# Altium footprint library Project_Oshinoko.PcbLib: 202 footprints (part 9 of 13)
Each footprint in its own frame and in the unit in brackets; x right, y up, seen from the top. Pads: shape width x height; smd on the part's side, far side on the other; paste and mask are expansions set on the pad; w line width, h text height; cw(c..) or ccw(c..) is an arc to the next point about the centre after c.
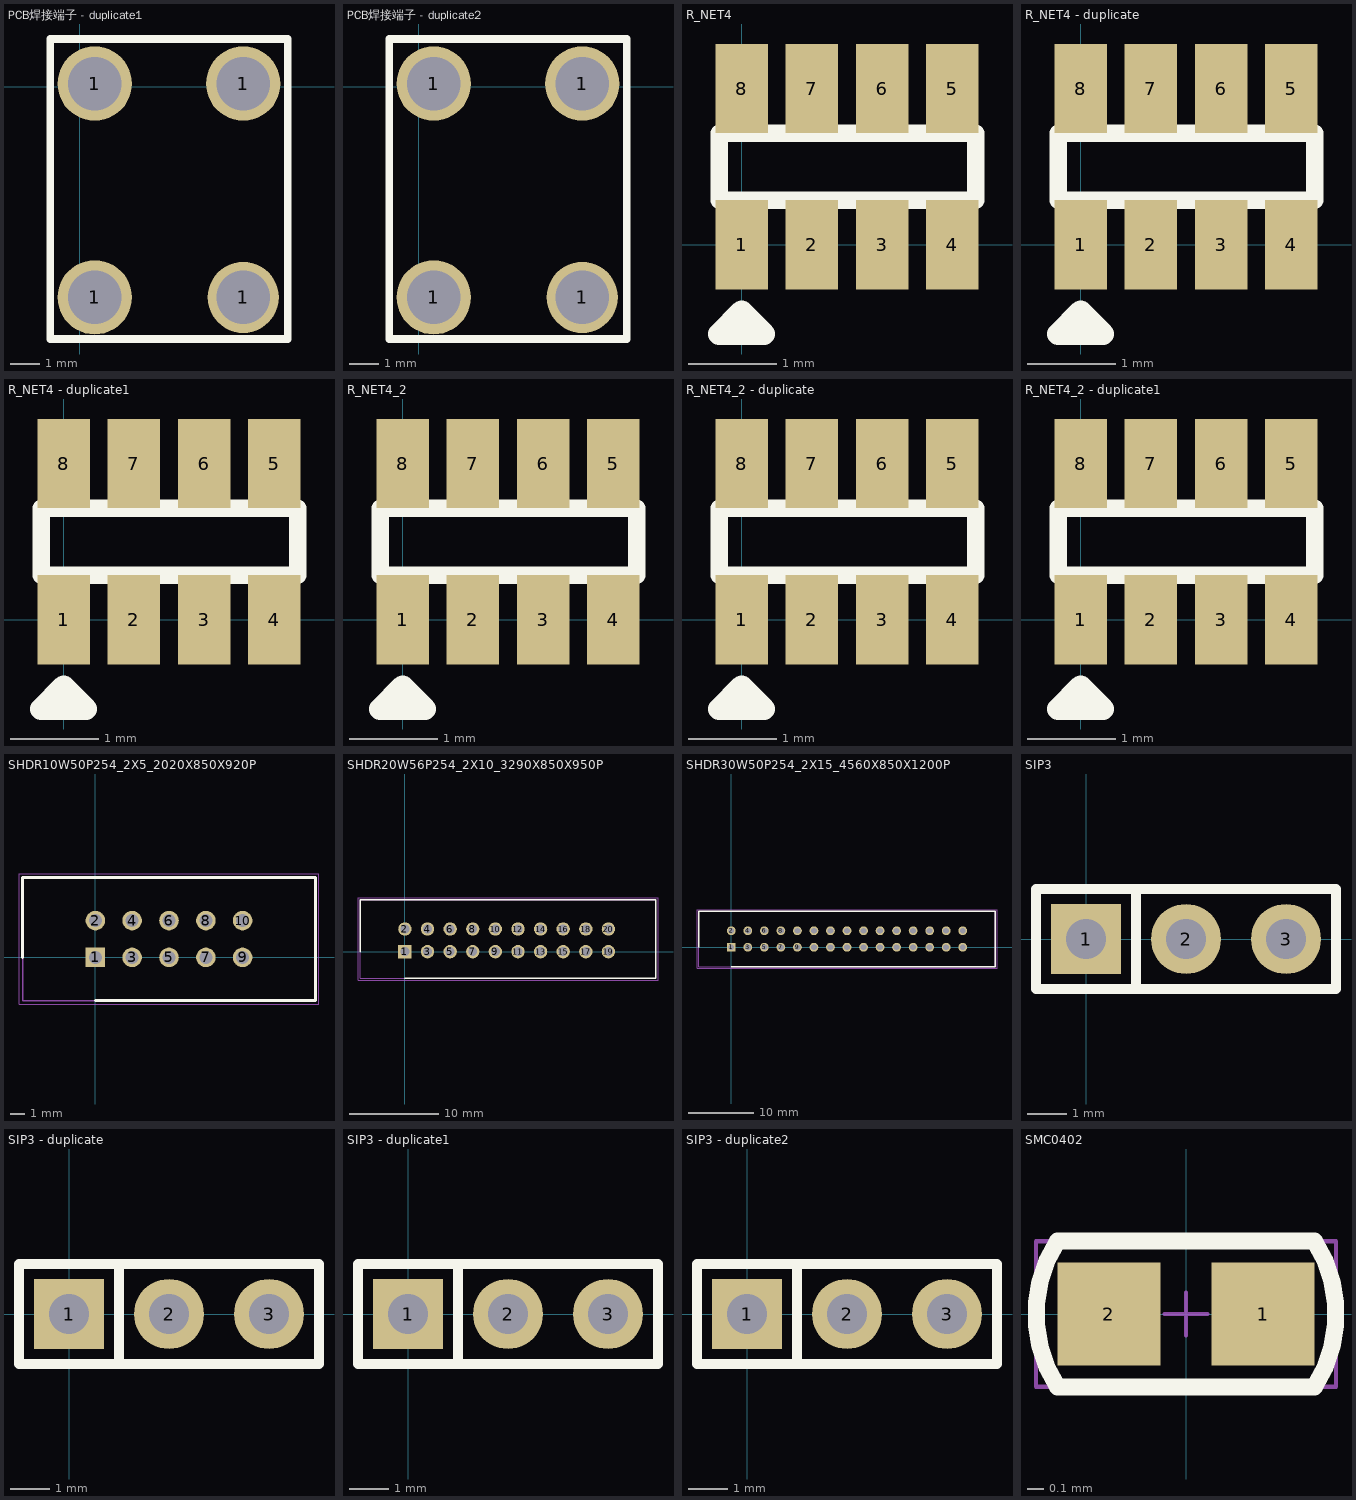
[diagram p8: the footprints below, top view; thin cyan lines are the x and y axes]

## PCB焊接端子 - duplicate1 [mm]
pads (4):
  round 2.5 hole 1.8: 1(0.5,-7.1) 1(0.5,0.1) 1(5.5,0.1)
  round 2.4 hole 1.8: 1(5.5,-7.1)
Top Overlay:
  lines w0.254: -1,-8.5 -1,1.6 7,1.6 7,-8.5 -1,-8.5

## PCB焊接端子 - duplicate2 [mm]
pads (4):
  round 2.5 hole 1.8: 1(0.5,-7.1) 1(0.5,0.1) 1(5.5,0.1)
  round 2.4 hole 1.8: 1(5.5,-7.1)
Top Overlay:
  lines w0.254: -1,-8.5 -1,1.6 7,1.6 7,-8.5 -1,-8.5

## R_NET4 [mm]
pads (8):
  rect 0.6x1.016 smd: 1(0,0) 2(0.8,0) 3(1.6,0) 4(2.4,0) 5(2.4,1.778) 6(1.6,1.778) 7(0.8,1.778) 8(0,1.778)
Top Overlay:
  lines w0.2: -0.254,0.508 -0.254,1.27 2.667,1.27 2.667,0.508 -0.254,0.508
  lines w0.254: -0.254,-1.016 0.254,-1.016 0,-0.762 -0.254,-1.016

## R_NET4 - duplicate [mm]
pads (8):
  rect 0.6x1.016 smd: 1(0,0) 2(0.8,0) 3(1.6,0) 4(2.4,0) 5(2.4,1.778) 6(1.6,1.778) 7(0.8,1.778) 8(0,1.778)
Top Overlay:
  lines w0.2: -0.254,0.508 2.667,0.508 2.667,1.27 -0.254,1.27 -0.254,0.508
  lines w0.254: -0.254,-1.016 0,-0.762 0.254,-1.016 -0.254,-1.016

## R_NET4 - duplicate1 [mm]
pads (8):
  rect 0.6x1.016 smd: 1(0,0) 2(0.8,0) 3(1.6,0) 4(2.4,0) 5(2.4,1.778) 6(1.6,1.778) 7(0.8,1.778) 8(0,1.778)
Top Overlay:
  lines w0.2: -0.254,0.508 2.667,0.508 2.667,1.27 -0.254,1.27 -0.254,0.508
  lines w0.254: -0.254,-1.016 0,-0.762 0.254,-1.016 -0.254,-1.016

## R_NET4_2 [mm]
pads (8):
  rect 0.6x1.016 smd: 1(0,0) 2(0.8,0) 3(1.6,0) 4(2.4,0) 5(2.4,1.778) 6(1.6,1.778) 7(0.8,1.778) 8(0,1.778)
Top Overlay:
  lines w0.2: -0.254,0.508 2.667,0.508 2.667,1.27 -0.254,1.27 -0.254,0.508
  lines w0.254: -0.254,-1.016 0,-0.762 0.254,-1.016 -0.254,-1.016

## R_NET4_2 - duplicate [mm]
pads (8):
  rect 0.6x1.016 smd: 1(0,0) 2(0.8,0) 3(1.6,0) 4(2.4,0) 5(2.4,1.778) 6(1.6,1.778) 7(0.8,1.778) 8(0,1.778)
Top Overlay:
  lines w0.2: -0.254,0.508 2.667,0.508 2.667,1.27 -0.254,1.27 -0.254,0.508
  lines w0.254: -0.254,-1.016 0,-0.762 0.254,-1.016 -0.254,-1.016

## R_NET4_2 - duplicate1 [mm]
pads (8):
  rect 0.6x1.016 smd: 1(0,0) 2(0.8,0) 3(1.6,0) 4(2.4,0) 5(2.4,1.778) 6(1.6,1.778) 7(0.8,1.778) 8(0,1.778)
Top Overlay:
  lines w0.2: -0.254,0.508 2.667,0.508 2.667,1.27 -0.254,1.27 -0.254,0.508
  lines w0.254: -0.254,-1.016 0,-0.762 0.254,-1.016 -0.254,-1.016

## SHDR10W50P254_2X5_2020X850X920P [mm]
pads (10):
  rect 1.35x1.35 hole 0.9: 1(0,0)
  round 1.35 hole 0.9: 2(0,2.54) 3(2.54,0) 4(2.54,2.54) 5(5.08,0) 6(5.08,2.54) 7(7.62,0) 8(7.62,2.54) 9(10.16,0) 10(10.16,2.54)
Top Overlay:
  lines w0.2: -5.02,0 -5.02,5.52 15.18,5.52 15.18,-2.98 0,-2.98
Mechanical 13:
  lines w0.1: -5.02,-2.98 -5.02,5.52 15.18,5.52 15.18,-2.98 -5.02,-2.98
Mechanical 15:
  lines w0.05: -5.27,-3.23 -5.27,5.77 15.43,5.77 15.43,-3.23 -5.27,-3.23
3D body "HIF3FC-10PA-2.54DSA_71_.stp": height 9.2, standoff -2.8, extent -5.02,-2.98 15.18,5.52

## SHDR20W56P254_2X10_3290X850X950P [mm]
pads (20):
  rect 1.5x1.5 hole 1: 1(0,0)
  round 1.5 hole 1: 2(0,2.54) 3(2.54,0) 4(2.54,2.54) 5(5.08,0) 6(5.08,2.54) 7(7.62,0) 8(7.62,2.54) 9(10.16,0) 10(10.16,2.54) 11(12.7,0) 12(12.7,2.54) 13(15.24,0) 14(15.24,2.54) 15(17.78,0) 16(17.78,2.54) 17(20.32,0) 18(20.32,2.54) 19(22.86,0) 20(22.86,2.54)
Top Overlay:
  lines w0.2: -5.02,0 -5.02,5.82 28.18,5.82 28.18,-2.98 0,-2.98
Mechanical 13:
  lines w0.1: -5.02,-2.98 28.18,-2.98 28.18,5.82 -5.02,5.82 -5.02,-2.98
Mechanical 15:
  lines w0.05: -5.27,-3.23 28.43,-3.23 28.43,6.07 -5.27,6.07 -5.27,-3.23
3D body "HIF3FC-20PA-2.54DSA_71_.stp": height 9.5, standoff -3.1, extent -5.02,-2.98 27.88,5.52

## SHDR30W50P254_2X15_4560X850X1200P [mm]
pads (30):
  rect 1.35x1.35 hole 0.9: 1(0,0)
  round 1.35 hole 0.9: 2(0,2.54) 3(2.54,0) 4(2.54,2.54) 5(5.08,0) 6(5.08,2.54) 7(7.62,0) 8(7.62,2.54) 9(10.16,0) 10(10.16,2.54) 11(12.7,0) 12(12.7,2.54) 13(15.24,0) 14(15.24,2.54) 15(17.78,0) 16(17.78,2.54) 17(20.32,0) 18(20.32,2.54) 19(22.86,0) 20(22.86,2.54) 21(25.4,0) 22(25.4,2.54) 23(27.94,0) 24(27.94,2.54) 25(30.48,0) 26(30.48,2.54) 27(33.02,0) 28(33.02,2.54) 29(35.56,0) 30(35.56,2.54)
Top Overlay:
  lines w0.2: -5.02,0 -5.02,5.52 40.58,5.52 40.58,-2.98 0,-2.98
Mechanical 13:
  lines w0.1: -5.02,-2.98 -5.02,5.52 40.58,5.52 40.58,-2.98 -5.02,-2.98
Mechanical 15:
  lines w0.05: -5.27,-3.23 -5.27,5.77 40.83,5.77 40.83,-3.23 -5.27,-3.23
3D body "HIF3FC-30PA-2.54DSA_71_.stp": height 12, standoff -2.8, extent -5.02,-2.98 40.58,5.52

## SIP3 [mil]
pads (3):
  rect 70x70 hole 40: 1(0,0)
  round 70 hole 40: 2(100,0) 3(200,0)
Top Overlay:
  lines w10: 50,-50 50,50 ; -50,-50 250,-50 250,50 -50,50 -50,-50

## SIP3 - duplicate [mil]
pads (3):
  rect 70x70 hole 40: 1(0,0)
  round 70 hole 40: 2(100,0) 3(200,0)
Top Overlay:
  lines w10: 50,-50 50,50 ; -50,-50 -50,50 250,50 250,-50 -50,-50

## SIP3 - duplicate1 [mil]
pads (3):
  rect 70x70 hole 40: 1(0,0)
  round 70 hole 40: 2(100,0) 3(200,0)
Top Overlay:
  lines w10: 50,-50 50,50 ; -50,-50 250,-50 250,50 -50,50 -50,-50

## SIP3 - duplicate2 [mil]
pads (3):
  rect 70x70 hole 40: 1(0,0)
  round 70 hole 40: 2(100,0) 3(200,0)
Top Overlay:
  lines w10: 50,-50 50,50 ; -50,-50 250,-50 250,50 -50,50 -50,-50

## SMC0402 [mil] "SMC0402"
pads (2):
  rect 24x24 smd: 1(18,0) 2(-18,0)
Top Overlay:
  lines w4: -30,-17 cw(c-3.6,0) -30,17 ; -29.83,17 29.94,17 ; -29.42,-17 29.44,-17 ; 30,-17 ccw(c3.6,0) 30,17
Mechanical 14:
  lines w1: -35,-17 -35,17 35,17 35,-17 -35,-17
Mechanical 15:
  lines w1: -5,0 5,0 ; 0,-5 0,5
Mechanical 16:
  lines w1: -35,-17 -35,17 35,17 35,-17 -35,-17